# Altium schematic symbol library TL7660CDR.SchLib: 1 symbol
Pins are listed as number, name and electrical type; pins without a type are passive.

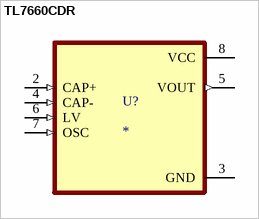
[diagram p0: symbol TL7660CDR]

## TL7660CDR
designator U?
MF: {'manufacturer': u'Texas Instruments'}; MP: TL7660CDR; Price: None; Package: None; Availability: Unavailable; Value: *
footprint SOIC127P599X175-8N
pins: 2 CAP+ (in), 3 GND (power), 4 CAP- (in), 5 VOUT (out), 6 LV (in), 7 OSC (in), 8 VCC (power)